# EAGLE library part LM2904 (library myLamp)
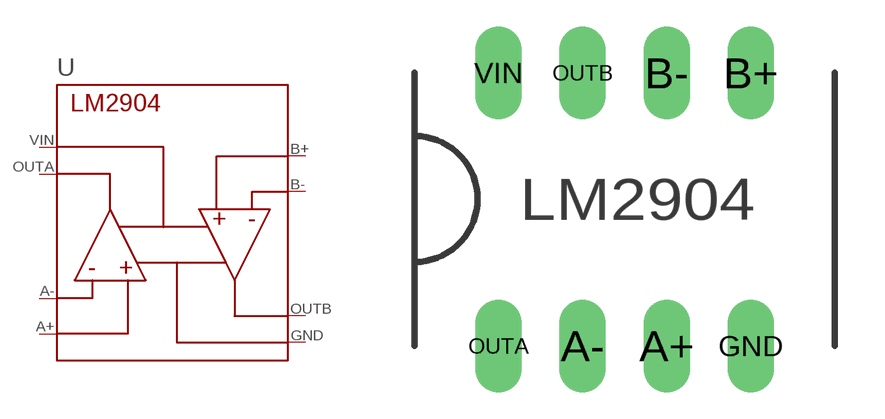
[diagram p1: symbol with the pads of LM2904; footprint LM2904]

Designator prefix -

## LM2904  [LM2904]
A+  P$3
A-  P$2
B+  P$5
B-  P$6
GND  P$8
OUTA  P$1
OUTB  P$4
VIN  P$7

## Footprint LM2904 (pad centres in mm)
drill 0.9 long: A+ 5.08,0; A- 2.54,0; B+ 7.62,8.255; B- 5.08,8.255; GND 7.62,0; OUTA 0,0; OUTB 2.54,8.255; VIN 0,8.255